# EAGLE library part INA114 (library INA114)
INA114 - The INA114 is a low cost, general purpose instrumentation amplifier offering excellent accuracy. Its versatile 3-op amp design and small size make it ideal for a wide range of applications.
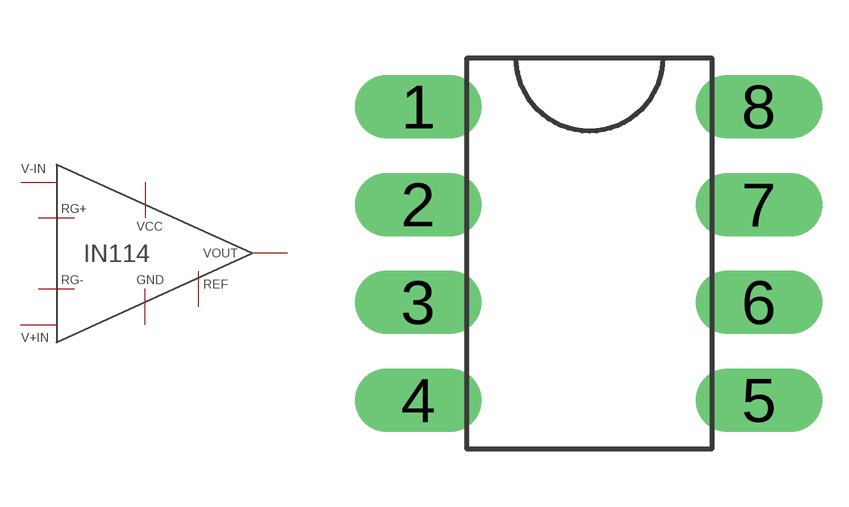
[diagram p0: symbol with the pads of DIP8; footprint DIP8]

Designator prefix -

## INA114  [DIP8]
1  RG+
2  V-IN
3  V+IN
4  GND
5  REF
6  VOUT
7  VCC
8  RG-

## Footprint DIP8 (pad centres in mm)
drill 1.1 long: 1 0,7.62; 2 0,5.08; 3 0,2.54; 4 0,0; 5 8.85,0; 6 8.85,2.54; 7 8.85,5.08; 8 8.85,7.62